# EAGLE library part MSP430F55*I (library project)
MSP430F5500 to 5510 Rev. 1.0 06/2010 Source: http://www.ti.com/lit/gpn/msp430f5509
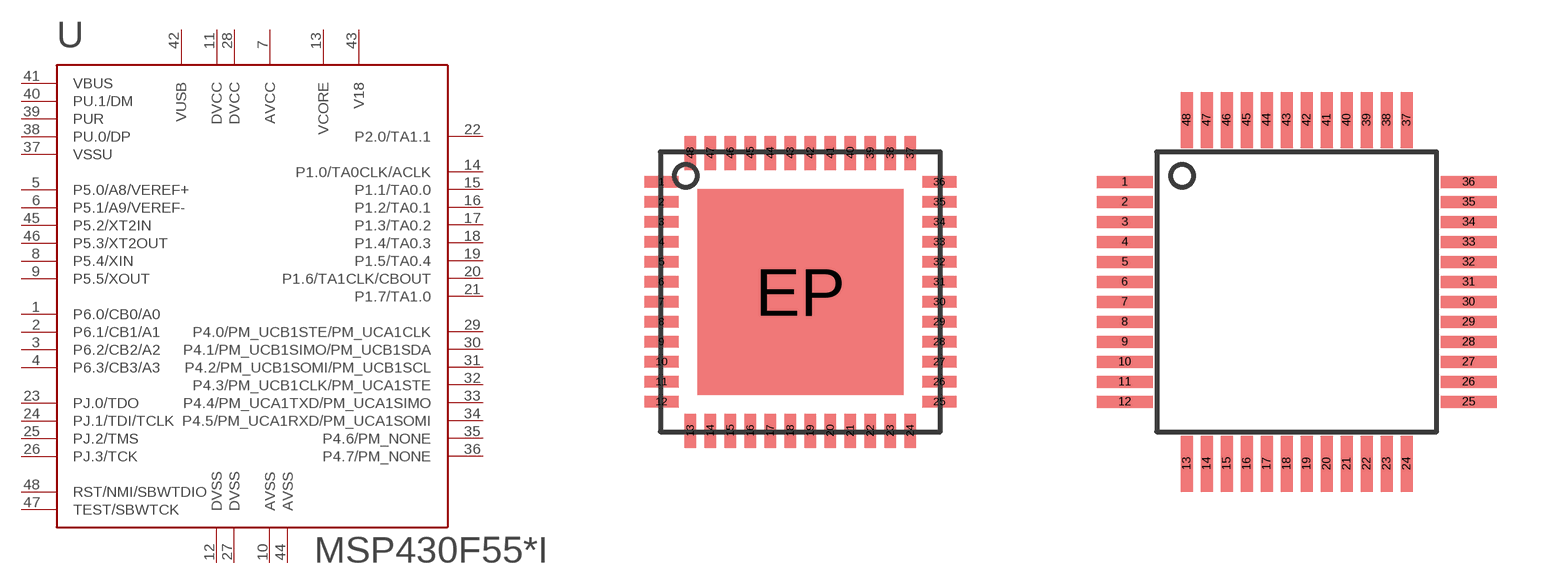
[diagram p14: symbol with the pads of RGZ48; footprints RGZ48, PT48]

Designator prefix U

## MSP430F5500IRGZ (ADCS: -; COMPS: 4; EEPROM: 8kB), MSP430F5501IRGZ (ADCS: -; COMPS: 4; EEPROM: 16kB), MSP430F5502IRGZ (ADCS: -; COMPS: 4; EEPROM: 24kB), MSP430F5503IRGZ (ADCS: -; COMPS: 4; EEPROM: 32kB), MSP430F5504IRGZ (ADCS: 6+2; COMPS: -; EEPROM: 8kB), MSP430F5505IRGZ (ADCS: 6+2; COMPS: -; EEPROM: 16kB), MSP430F5506IRGZ (ADCS: 6+2; COMPS: -; EEPROM: 24kB), MSP430F5507IRGZ (ADCS: 6+2; COMPS: -; EEPROM: 32kB), MSP430F5508IRGZ (ADCS: 6+2; COMPS: 4; EEPROM: 16kB), MSP430F5509IRGZ (ADCS: 6+2; COMPS: 4; EEPROM: 24kB), MSP430F5510IRGZ (ADCS: 6+2; COMPS: 4; EEPROM: 32kB)  [RGZ48]
1  P6.0/CB0/A0
2  P6.1/CB1/A1
3  P6.2/CB2/A2
4  P6.3/CB3/A3
5  P5.0/A8/VEREF+
6  P5.1/A9/VEREF-
7  AVCC  pwr
8  P5.4/XIN
9  P5.5/XOUT
10  AVSS  pwr
11  DVCC  pwr
12  DVSS  pwr
13  VCORE  pwr
14  P1.0/TA0CLK/ACLK
15  P1.1/TA0.0
16  P1.2/TA0.1
17  P1.3/TA0.2
18  P1.4/TA0.3
19  P1.5/TA0.4
20  P1.6/TA1CLK/CBOUT
21  P1.7/TA1.0
22  P2.0/TA1.1
23  PJ.0/TDO
24  PJ.1/TDI/TCLK
25  PJ.2/TMS
26  PJ.3/TCK
27  DVSS  pwr
28  DVCC  pwr
29  P4.0/PM_UCB1STE/PM_UCA1CLK
30  P4.1/PM_UCB1SIMO/PM_UCB1SDA
31  P4.2/PM_UCB1SOMI/PM_UCB1SCL
32  P4.3/PM_UCB1CLK/PM_UCA1STE
33  P4.4/PM_UCA1TXD/PM_UCA1SIMO
34  P4.5/PM_UCA1RXD/PM_UCA1SOMI
35  P4.6/PM_NONE
36  P4.7/PM_NONE
37  VSSU  pwr
38  PU.0/DP
39  PUR
40  PU.1/DM
41  VBUS  pwr
42  VUSB  pwr
43  V18  pwr
44  AVSS  pwr
45  P5.2/XT2IN
46  P5.3/XT2OUT
47  TEST/SBWTCK  in
48  RST/NMI/SBWTDIO

## MSP430F5504IPT (COMPS: -; EEPROM: 8kB), MSP430F5508IPT (COMPS: 4; EEPROM: 16kB), MSP430F5509IPT (COMPS: 4; EEPROM: 24kB), MSP430F5510IPT (COMPS: 4; EEPROM: 32kB)  [PT48]
Pads as for RGZ48

## Footprint RGZ48 (pad centres in mm)
*** TI: RGZ *** JEDEC: S-PVQFN-N48 *** 48 PINS ***
smd 0.85 x 0.28: 1 -3.475,2.75; 2 -3.475,2.25; 3 -3.475,1.75; 4 -3.475,1.25; 5 -3.475,0.75; 6 -3.475,0.25; 7 -3.475,-0.25; 8 -3.475,-0.75; 9 -3.475,-1.25; 10 -3.475,-1.75; 11 -3.475,-2.25; 12 -3.475,-2.75; 25 3.475,-2.75; 26 3.475,-2.25; 27 3.475,-1.75; 28 3.475,-1.25; 29 3.475,-0.75; 30 3.475,-0.25; 31 3.475,0.25; 32 3.475,0.75; 33 3.475,1.25; 34 3.475,1.75; 35 3.475,2.25; 36 3.475,2.75
smd 0.28 x 0.85: 13 -2.75,-3.475; 14 -2.25,-3.475; 15 -1.75,-3.475; 16 -1.25,-3.475; 17 -0.75,-3.475; 18 -0.25,-3.475; 19 0.25,-3.475; 20 0.75,-3.475; 21 1.25,-3.475; 22 1.75,-3.475; 23 2.25,-3.475; 24 2.75,-3.475; 37 2.75,3.475; 38 2.25,3.475; 39 1.75,3.475; 40 1.25,3.475; 41 0.75,3.475; 42 0.25,3.475; 43 -0.25,3.475; 44 -0.75,3.475; 45 -1.25,3.475; 46 -1.75,3.475; 47 -2.25,3.475; 48 -2.75,3.475
smd 5.15 x 5.15: EP 0,0

## Footprint PT48 (pad centres in mm)
*** TI: PT *** JEDEC: S-PQFP-G48 *** 48 PINS ***
smd 1.4 x 0.3: 1 -4.3,2.75; 2 -4.3,2.25; 3 -4.3,1.75; 4 -4.3,1.25; 5 -4.3,0.75; 6 -4.3,0.25; 7 -4.3,-0.25; 8 -4.3,-0.75; 9 -4.3,-1.25; 10 -4.3,-1.75; 11 -4.3,-2.25; 12 -4.3,-2.75; 25 4.3,-2.75; 26 4.3,-2.25; 27 4.3,-1.75; 28 4.3,-1.25; 29 4.3,-0.75; 30 4.3,-0.25; 31 4.3,0.25; 32 4.3,0.75; 33 4.3,1.25; 34 4.3,1.75; 35 4.3,2.25; 36 4.3,2.75
smd 0.3 x 1.4: 13 -2.75,-4.3; 14 -2.25,-4.3; 15 -1.75,-4.3; 16 -1.25,-4.3; 17 -0.75,-4.3; 18 -0.25,-4.3; 19 0.25,-4.3; 20 0.75,-4.3; 21 1.25,-4.3; 22 1.75,-4.3; 23 2.25,-4.3; 24 2.75,-4.3; 37 2.75,4.3; 38 2.25,4.3; 39 1.75,4.3; 40 1.25,4.3; 41 0.75,4.3; 42 0.25,4.3; 43 -0.25,4.3; 44 -0.75,4.3; 45 -1.25,4.3; 46 -1.75,4.3; 47 -2.25,4.3; 48 -2.75,4.3